# EAGLE library part MMA7660FC (library juliano)
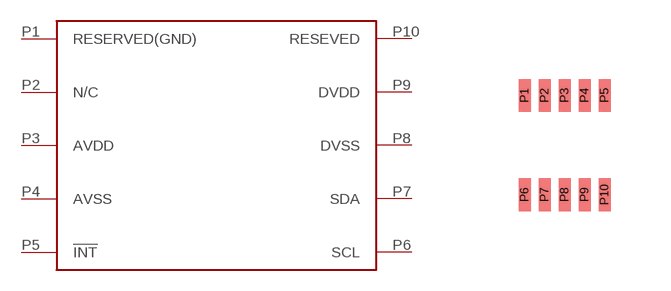
[diagram p3: symbol with the pads of DFN10; footprint DFN10]

Designator prefix -

## MMA7660FC  [DFN10]
P1  RESERVED(GND)
P2  N/C
P3  AVDD
P4  AVSS
P5  !INT
P6  SCL
P7  SDA
P8  DVSS
P9  DVDD
P10  RESEVED

## Footprint DFN10 (pad centres in mm)
smd 0.3 x 0.825: P1 -1,1.24; P2 -0.5,1.24; P3 0,1.24; P4 0.5,1.24; P5 1,1.24; P6 -1,-1.24; P7 -0.5,-1.24; P8 0,-1.24; P9 0.5,-1.24; P10 1,-1.24